# Altium footprint library CAP_AXIAL_610x260.PcbLib: 1 footprints
Each footprint in its own frame and in the unit in brackets; x right, y up, seen from the top. Pads: shape width x height; smd on the part's side, far side on the other; paste and mask are expansions set on the pad; w line width, h text height; cw(c..) or ccw(c..) is an arc to the next point about the centre after c.
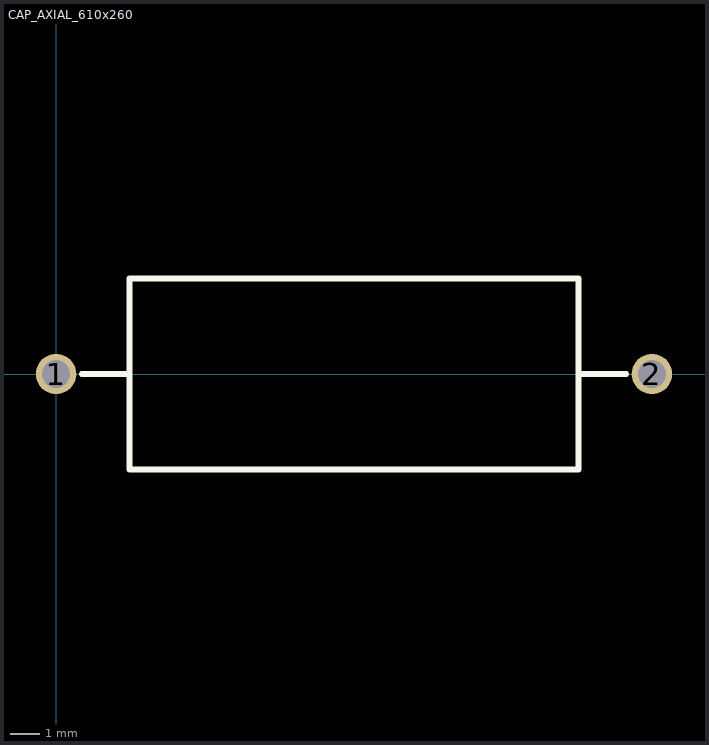
[diagram p0: the footprint, top view; thin cyan lines are the x and y axes]

## CAP_AXIAL_610x260 [mil]
height 260
pads (2):
  round 55 hole 38: 1(0,0) 2(810,0)
TopOverlay:
  lines w8: 35,0 100,0 ; 710,0 775,0 ; 100,-130 100,130 710,130 710,-130 100,-130
3D body: height 260, standoff 0, extent 100.02,-129.98 709.98,129.98